# Altium footprint library usb_connectors.PcbLib: 3 footprints
Each footprint in its own frame and in the unit in brackets; x right, y up, seen from the top. Pads: shape width x height; smd on the part's side, far side on the other; paste and mask are expansions set on the pad; w line width, h text height; cw(c..) or ccw(c..) is an arc to the next point about the centre after c.
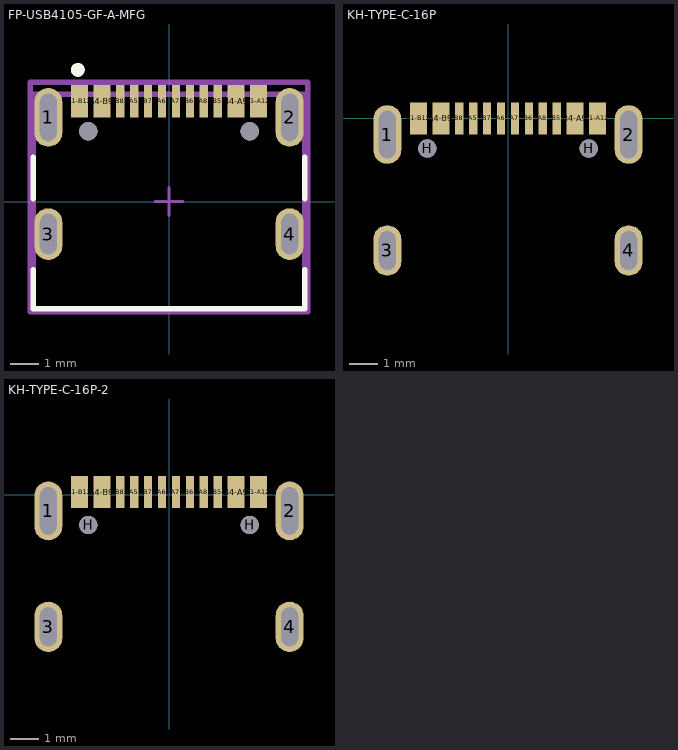
[diagram p0: the footprints below, top view; thin cyan lines are the x and y axes]

## FP-USB4105-GF-A-MFG [mm]
pads (18):
  rrect100% 1x2.1 hole 0.6 slot 1.7 at 90 deg paste-1000 mask+0: 1(-4.32,3.015) 2(4.32,3.015)
  rrect100% 1x1.85 hole 0.6 slot 1.45 at 90 deg paste-1000 mask+0: 3(-4.32,-1.165) 4(4.32,-1.165)
  rect 0.6x1.15 smd paste+0 mask+0: A1-B12(-3.2,3.59) A4-B9(-2.4,3.59) B1-A12(3.2,3.59) B4-A9(2.4,3.59)
  rect 0.3x1.15 smd paste+0 mask+0: A5(-1.25,3.59) A6(-0.25,3.59) A7(0.25,3.59) A8(1.25,3.59) B5(1.75,3.59) B6(0.75,3.59) B7(-0.75,3.59) B8(-1.75,3.59)
  round 0.65 hole 0.65 unplated paste-1000 mask+0: ""(-2.89,2.515) ""(2.89,2.515)
Top Overlay:
  circle w0.25: c-3.265,4.715 r0.125
  lines w0.2: -4.865,-2.44 -4.865,-3.84 4.865,-3.84 4.865,-2.44 ; -4.865,0.11 -4.865,1.59 ; 4.865,0.11 4.865,1.59
Mechanical 5:
  lines w0.2: -4.965,-3.94 4.965,-3.94 4.965,4.265 -4.965,4.265 -4.965,-3.94
  text ".Designator" at 0,0.35 h1
Mechanical 13:
  lines w0.2: -4.865,-3.84 4.865,-3.84 4.865,3.84 -4.865,3.84 -4.865,-3.84
Mechanical 15:
  lines w0.2: -4.965,-3.94 4.965,-3.94 4.965,4.265 -4.965,4.265 -4.965,-3.94
Mechanical 16:
  lines w0.1: -0.5,0 0.5,0 ; 0,-0.5 0,0.5
3D body "Conn_GCT_USB4105-GF-A_eec.STEP": height 0.25, standoff 0, extent -4.965,-3.94 4.965,4.265

## KH-TYPE-C-16P [mm] "USB type-c connector"
pads (18):
  oval 1x2.1 hole 0.6 slot 1.7 at 90 deg: 1(-4.32,-0.575) 2(4.32,-0.575)
  oval 1x1.8 hole 0.6 slot 1.4 at 90 deg: 3(-4.32,-4.725) 4(4.32,-4.725)
  rect 0.6x1.15 smd: A1-B12(-3.2,0) A4-B9(-2.4,0) B1-A12(3.2,0) B4-A9(2.4,0)
  rect 0.3x1.15 smd: A5(-1.25,0) A6(-0.25,0) A7(0.25,0) A8(1.25,0) B5(1.75,0) B6(0.75,0) B7(-0.75,0) B8(-1.75,0)
  round 0.65 hole 0.65 unplated: H(-2.89,-1.075) H(2.89,-1.075)
3D body "USB - C.step": height 3.26, standoff -1, extent -4.475,-7.4 4.475,0.35

## KH-TYPE-C-16P-2 [mm] "USB type-c connector fixed clearance"
pads (18):
  oval 1x2.1 hole 0.6 slot 1.7 at 90 deg: 1(-4.32,-0.575) 2(4.32,-0.575)
  oval 1x1.8 hole 0.6 slot 1.4 at 90 deg: 3(-4.32,-4.725) 4(4.32,-4.725)
  rect 0.6x1.15 smd: A1-B12(-3.2,0.1) A4-B9(-2.4,0.1) B1-A12(3.2,0.1) B4-A9(2.4,0.1)
  rect 0.3x1.15 smd: A5(-1.25,0.1) A6(-0.25,0.1) A7(0.25,0.1) A8(1.25,0.1) B5(1.75,0.1) B6(0.75,0.1) B7(-0.75,0.1) B8(-1.75,0.1)
  round 0.65 hole 0.65 unplated: H(-2.89,-1.075) H(2.89,-1.075)
3D body "USB - C.step": height 3.26, standoff -1, extent -4.475,-7.4 4.475,0.35